# Altium footprint library VCC24T5.PcbLib: 1 footprints
Each footprint in its own frame and in the unit in brackets; x right, y up, seen from the top. Pads: shape width x height; smd on the part's side, far side on the other; paste and mask are expansions set on the pad; w line width, h text height; cw(c..) or ccw(c..) is an arc to the next point about the centre after c.
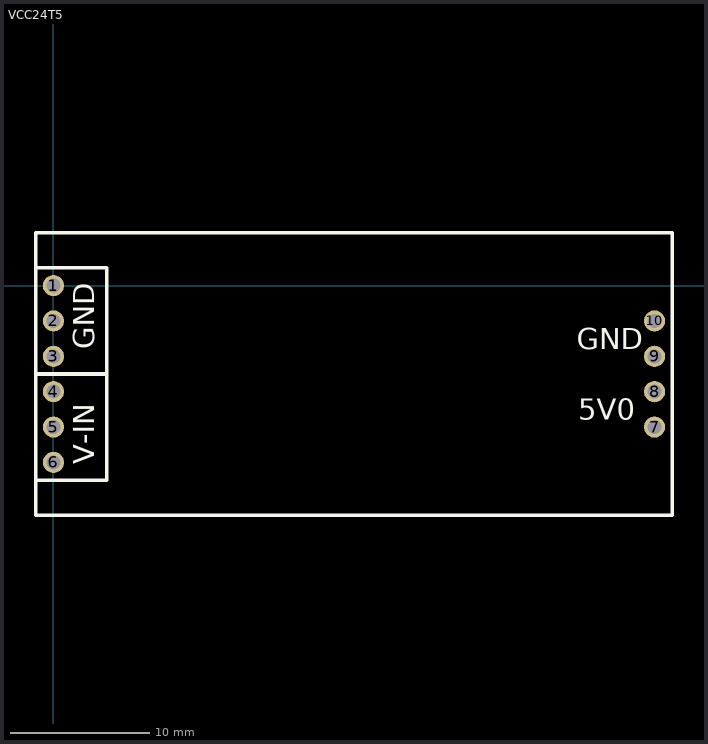
[diagram p0: the footprint, top view; thin cyan lines are the x and y axes]

## VCC24T5 [mil] "VCC24T5"
pads (10):
  round 60 hole 40: 1(0,0) 2(0,-100) 3(0,-200) 4(0,-300) 5(0,-400) 6(0,-500) 7(1700,-400) 8(1700,-300) 9(1700,-200) 10(1700,-100)
Top Overlay:
  lines w10: -50,-550 150,-550 150,50 -50,50 ; -45,-250 150,-250 ; -50,-650 -50,-500 -50,0 -50,150 1750,150 1750,-650 -50,-650
  text "GND" at 115,-180 h60
  text "V-IN" at 115,-505 h60
  text "GND" at 1480,-180 h60
  text "5V0" at 1485,-380 h60